# Altium integrated library All_Library1.IntLib: 123 symbols (part 2 of 2)
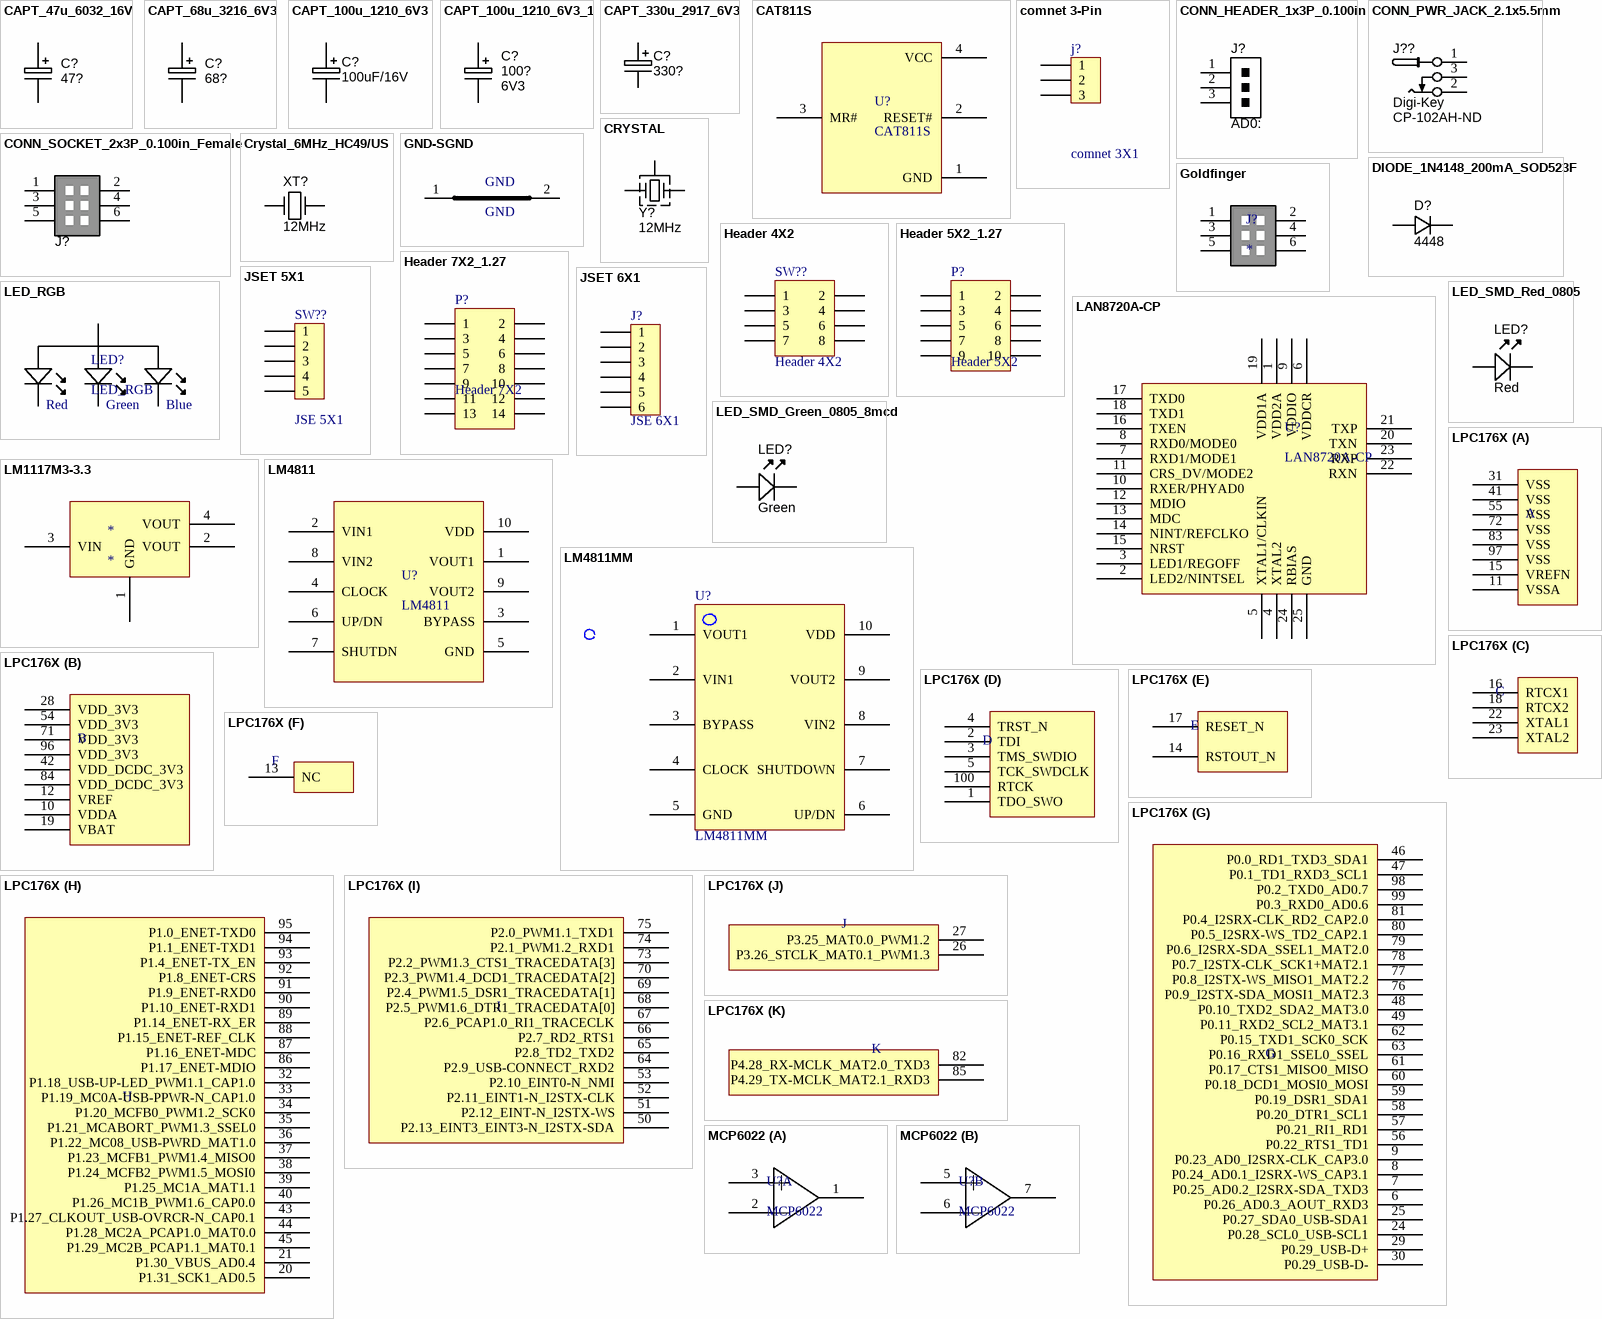
[diagram p4: symbols CAPT_47u_6032_16V to MCP6022]

## Crystal_6MHz_HC49/US
designator XT?, comment 12MHz
Resonator Ceramic 6.00 MHz 30ppm; Manufacturer 1: CTS-Frequency Controls; Manufacturer Part Number 1: ATS060BSM-1; Frequency: 6MHz; Frequency Stability: ?0ppm; Load Capacitance: 18pF; Operating Mode: Fundamental; Parameter Name: 0.169" (4.30mm); Package / Case: HC49/US-SM; Ratings: 6.00 MHz; Supplier 1: Digi-Key; Supplier Part Number 1: CTX882CT-ND; Type: MHz Crystal; Frequency Tolerance: ?0ppm; Operating Temperature: -20蚓 ~ 70蚓; Mounting Type: Surface Mount; Size / Dimension: 0.437" L x 0.190" W (11.10mm x 4.83mm); ComponentLink1URL: http://www.ctscorp.com/components/Datasheets/008-0309-0.pdf; ComponentLink1Description: http://www.ctscorp.com/components/Datasheets/008-0309-0.pdf
footprint CRYSTAL_HC49-US-SM (SMD Crystal HC49/US-SM package)
pins: 1 IN, 2 OUT

## DIODE_1N4148_200mA_SOD523F
designator D?, comment 4448
Diode SMD small signal 0.2A SOD-523F; Ratings: Vr=75V; Vf=1V@10mA; Io=200mA; Material: Si; Package / Case: SC-79, SOD-523F; Supplier 1: Digi-Key; Supplier Part Number 1: 1N4148WTCT-ND; Value: 4448
footprint SOD523F (SOD-523F; 2 Leads; Body 1.3 x 0.9 mm, (LxW))
pins: A, K

## GND-SGND
designator GND, comment GND
footprint GND-SGND
pins: 1 GND, 2

## Goldfinger
designator J?
footprint Goldfinger
pins: 1, 2, 3, 4, 5, 6

## Header 4X2
designator SW??
Header, 4-Pin, Dual row; LatestRevisionDate: 17-Jul-2002; LatestRevisionNote: Re-released for DXP Platform.; Publisher: Altium Limited
footprint HDR2X4 (Connector; Header; 4x2 Position)
pins: 1, 2, 3, 4, 5, 6, 7, 8

## Header 5X2_1.27
designator P?, comment Header 5X2
Header, 5-Pin, Dual row; LatestRevisionDate: 17-Jul-2002; LatestRevisionNote: Re-released for DXP Platform.; Publisher: Altium Limited
footprint Header 5*2 (Connector; Header; 5x2 ,1.27mm)
pins: 1, 2, 3, 4, 5, 6, 7, 8, 9, 10

## Header 7X2_1.27
designator P?, comment Header 7X2
Header, 7-Pin, Dual row; LatestRevisionDate: 17-Jul-2002; LatestRevisionNote: Re-released for DXP Platform.; Publisher: Altium Limited
footprint Header 7X2-1.27 (Connector; Header; 7x2 ,1.27mm)
pins: 1, 2, 3, 4, 5, 6, 7, 8, 9, 10, 11, 12, 13, 14

## JSET 5X1
designator SW??, comment JSE 5X1
JSET, 5-Pin, 2mm Dual row; LatestRevisionDate: 17-Jul-2002; LatestRevisionNote: Re-released for DXP Platform.; Publisher: Altium Limited
footprint JST1X5 (Connector; JST ; 5X1 Position)
pins: 1, 2, 3, 4, 5

## JSET 6X1
designator J?, comment JSE 6X1
JSET, 6-Pin, 2mm Dual row; LatestRevisionDate: 17-Jul-2002; LatestRevisionNote: Re-released for DXP Platform.; Publisher: Altium Limited
footprint JST1X6 (Connector; JST ; 6X1 Position)
pins: 1, 2, 3, 4, 5, 6

## LAN8720A-CP
designator U?
footprint QFN-MJ24 (QFN, 24-Leads, Body 4x4mm, Pitch 0.5mm, Thermal Pad 2.6x2.6mm, Microchip Recommended)
pins: 1 VDD2A, 2 LED2/NINTSEL, 3 LED1/REGOFF, 4 XTAL2, 5 XTAL1/CLKIN, 6 VDDCR, 7 RXD1/MODE1, 8 RXD0/MODE0, 9 VDDIO, 10 RXER/PHYAD0, 11 CRS_DV/MODE2, 12 MDIO, 13 MDC, 14 NINT/REFCLKO, 15 NRST, 16 TXEN, 17 TXD0, 18 TXD1, 19 VDD1A, 20 TXN, 21 TXP, 22 RXN, 23 RXP, 24 RBIAS, 25 GND

## LED_RGB
designator LED?
footprint 4-PLCC (LED_RGB)
pins: B, G, R, VCC
text: Red; Green; Blue

## LED_SMD_Green_0805_8mcd
designator LED?, comment Green
LED, 0805 SMD, Green; Manufacturer 1: Ligitek; Manufacturer Part Number 1: LG-170PG-CT; Material: GaP; Ratings: 8 mcd; 558 nm; Package / Case: 0805
footprint LED-0805-K
pins: A, K

## LED_SMD_Red_0805
designator LED?, comment Red
LED, 0805 SMD, Red; Manufacturer 1: Ligitek; Manufacturer Part Number 1: LG170SR-CT; Material: GaAIAs; Ratings: 20 mcd; 643 nm; Package / Case: 0805
footprint LED-0805-A
pins: A, K

## LM1117M3-3.3
designator *
footprint SOT-223 (SOT-223/SC-73; 4 Leads; Body 6.7 x 7.3 mm, inc. leads (LxW max))
pins: 1 GND, 2 VOUT, 3 VIN, 4 VOUT

## LM4811
designator U?
footprint MSOP-UN10_M (TSSOP, 10-Leads, Body 3x3mm, Pitch 0.5mm, IPC Low Density)
pins: 1 VOUT1, 2 VIN1, 3 BYPASS, 4 CLOCK, 5 GND, 6 UP/DN, 7 SHUTDN, 8 VIN2, 9 VOUT2, 10 VDD

## LM4811MM
designator U?
footprint MSOP-UN10_N (TSSOP, 10-Leads, Body 3x3mm, Pitch 0.5mm, IPC Medium Density)
pins: 1 VOUT1, 2 VIN1, 3 BYPASS, 4 CLOCK, 5 GND, 6 UP/DN, 7 SHUTDOWN, 8 VIN2, 9 VOUT2, 10 VDD

## LPC176X
designator ?
footprint SOT407-1_N (Thin QFP, 100-Leads, Body 14x14mm, Pitch 0.5mm, IPC Medium Density)
part A pins: 11 VSSA, 15 VREFN, 31 VSS, 41 VSS, 55 VSS, 72 VSS, 83 VSS, 97 VSS
part B pins: 10 VDDA, 12 VREF, 19 VBAT, 28 VDD_3V3, 42 VDD_DCDC_3V3, 54 VDD_3V3, 71 VDD_3V3, 84 VDD_DCDC_3V3, 96 VDD_3V3
part C pins: 16 RTCX1, 18 RTCX2, 22 XTAL1, 23 XTAL2
part D pins: 1 TDO_SWO, 2 TDI, 3 TMS_SWDIO, 4 TRST_N, 5 TCK_SWDCLK, 100 RTCK
part E pins: 14 RSTOUT_N, 17 RESET_N
part F pins: 13 NC
part G pins: 6 P0.26_AD0.3_AOUT_RXD3, 7 P0.25_AD0.2_I2SRX-SDA_TXD3, 8 P0.24_AD0.1_I2SRX-WS_CAP3.1, 9 P0.23_AD0_I2SRX-CLK_CAP3.0, 24 P0.28_SCL0_USB-SCL1, 25 P0.27_SDA0_USB-SDA1, 29 P0.29_USB-D+, 30 P0.29_USB-D-, 46 P0.0_RD1_TXD3_SDA1, 47 P0.1_TD1_RXD3_SCL1, 48 P0.10_TXD2_SDA2_MAT3.0, 49 P0.11_RXD2_SCL2_MAT3.1, 56 P0.22_RTS1_TD1, 57 P0.21_RI1_RD1, 58 P0.20_DTR1_SCL1, 59 P0.19_DSR1_SDA1, 60 P0.18_DCD1_MOSI0_MOSI, 61 P0.17_CTS1_MISO0_MISO, 62 P0.15_TXD1_SCK0_SCK, 63 P0.16_RXD1_SSEL0_SSEL, 76 P0.9_I2STX-SDA_MOSI1_MAT2.3, 77 P0.8_I2STX-WS_MISO1_MAT2.2, 78 P0.7_I2STX-CLK_SCK1+MAT2.1, 79 P0.6_I2SRX-SDA_SSEL1_MAT2.0, 80 P0.5_I2SRX-WS_TD2_CAP2.1, 81 P0.4_I2SRX-CLK_RD2_CAP2.0, 98 P0.2_TXD0_AD0.7, 99 P0.3_RXD0_AD0.6
part H pins: 20 P1.31_SCK1_AD0.5, 21 P1.30_VBUS_AD0.4, 32 P1.18_USB-UP-LED_PWM1.1_CAP1.0, 33 P1.19_MC0A-USB-PPWR-N_CAP1.0, 34 P1.20_MCFB0_PWM1.2_SCK0, 35 P1.21_MCABORT_PWM1.3_SSEL0, 36 P1.22_MC08_USB-PWRD_MAT1.0, 37 P1.23_MCFB1_PWM1.4_MISO0, 38 P1.24_MCFB2_PWM1.5_MOSI0, 39 P1.25_MC1A_MAT1.1, 40 P1.26_MC1B_PWM1.6_CAP0.0, 43 P1.27_CLKOUT_USB-OVRCR-N_CAP0.1, 44 P1.28_MC2A_PCAP1.0_MAT0.0, 45 P1.29_MC2B_PCAP1.1_MAT0.1, 86 P1.17_ENET-MDIO, 87 P1.16_ENET-MDC, 88 P1.15_ENET-REF_CLK, 89 P1.14_ENET-RX_ER, 90 P1.10_ENET-RXD1, 91 P1.9_ENET-RXD0, 92 P1.8_ENET-CRS, 93 P1.4_ENET-TX_EN, 94 P1.1_ENET-TXD1, 95 P1.0_ENET-TXD0
part I pins: 50 P2.13_EINT3_EINT3-N_I2STX-SDA, 51 P2.12_EINT-N_I2STX-WS, 52 P2.11_EINT1-N_I2STX-CLK, 53 P2.10_EINT0-N_NMI, 64 P2.9_USB-CONNECT_RXD2, 65 P2.8_TD2_TXD2, 66 P2.7_RD2_RTS1, 67 P2.6_PCAP1.0_RI1_TRACECLK, 68 P2.5_PWM1.6_DTR1_TRACEDATA[0], 69 P2.4_PWM1.5_DSR1_TRACEDATA[1], 70 P2.3_PWM1.4_DCD1_TRACEDATA[2], 73 P2.2_PWM1.3_CTS1_TRACEDATA[3], 74 P2.1_PWM1.2_RXD1, 75 P2.0_PWM1.1_TXD1
part J pins: 26 P3.26_STCLK_MAT0.1_PWM1.3, 27 P3.25_MAT0.0_PWM1.2
part K pins: 82 P4.28_RX-MCLK_MAT2.0_TXD3, 85 P4.29_TX-MCLK_MAT2.1_RXD3

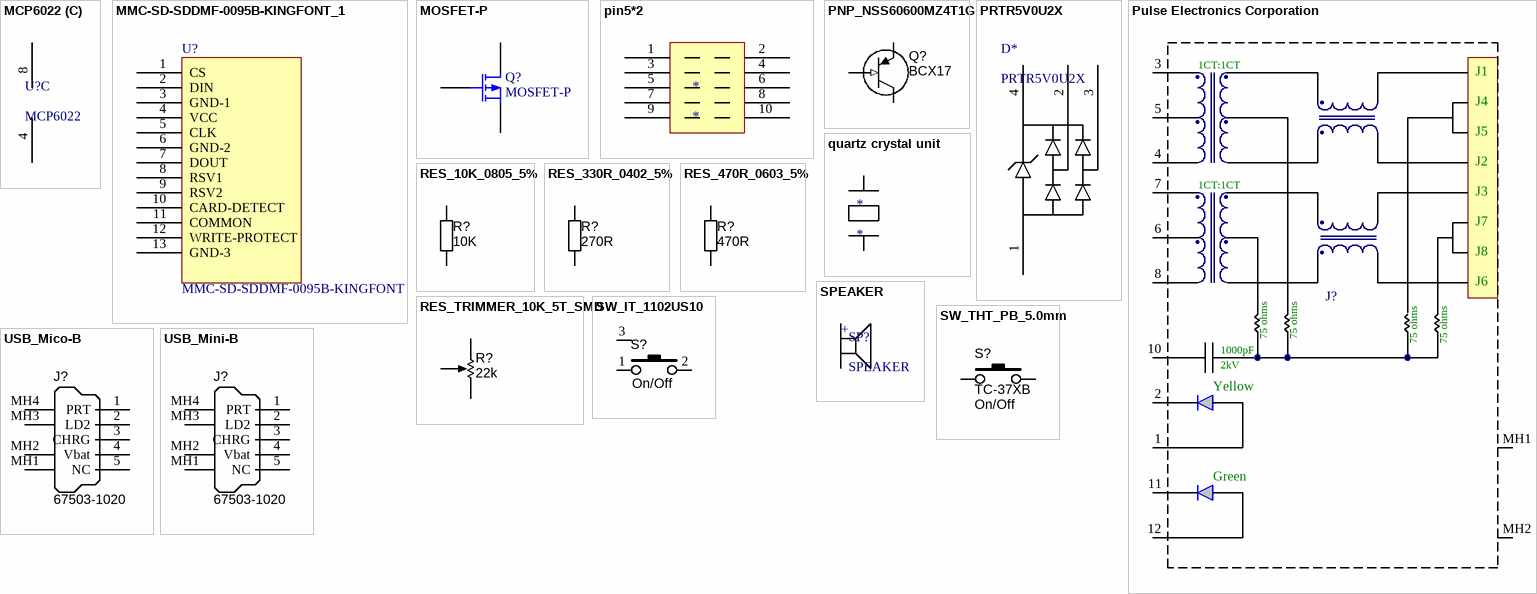
[diagram p3: symbols MCP6022 to USB_Mini-B]

## MCP6022
designator U?
footprint TSSOP-ST8_N (TSOP, 8-Leads, Body 3x4.4mm, Pitch 0.65mm, IPC Medium Density)
part A pins: 1 VOUTA, 2 VINA-, 3 VINA+
part B pins: 5 VINB+, 6 VINB-, 7 VOUTB
part C pins: 4 GND, 8 VDD

## MMC-SD-SDDMF-0095B-KINGFONT_1
designator U?, comment MMC-SD-SDDMF-0095B-KINGFONT
footprint TF-CARD
pins: 1 CS, 2 DIN, 3 GND-1, 4 VCC, 5 CLK, 6 GND-2, 7 DOUT, 8 RSV1, 9 RSV2, 10 CARD-DETECT, 11 COMMON, 12 WRITE-PROTECT, 13 GND-3

## MOSFET-P
designator Q?
P-Channel MOSFET; Published: 8-Jun-2000; LatestRevisionDate: 17-Jul-2002; LatestRevisionNote: Re-released for DXP Platform.; PackageVersion: 1995/1996; PackageReference: E3; Publisher: Altium Limited; PackageDescription: TO, Flat Index; 3 In-Line, Axial Leads; Body Dia. 4.6mm; Lead Dia. 0.5 mm (max)
footprint SOT23-3N (SOT23, 3-Leads, Body 2.9x1.3mm, Pitch 0.95mm, Lead Span 2.5mm, IPC Medium Density)
pins: 1 G, 2 S, 3 D

## pin5*2
designator *
pins: 1, 2, 3, 4, 5, 6, 7, 8, 9, 10

## PNP_NSS60600MZ4T1G
designator Q?, comment Manufacturer Part Number 1: BCX17  (hidden comment: PNP)
Transistor SMD PNP 60V 6A 800mW SOT-223; Manufacturer 1: ON Semiconductor; Ratings: 60V; 6A; 800mW; Material: Si; Package / Case: SOT-223; Transistor Type: PNP; Mounting Type: Surface Mount; Supplier 1: Digi-Key; Supplier Part Number 1: NSS60600MZ4T1GOSCT-ND
footprint SOT-223 (SOT-223/SC-73; 4 Leads; Body 6.7 x 7.3 mm, inc. leads (LxW max))
pins: 1 B (in), 2 C, 3 E, 4 C

## PRTR5V0U2X
designator D*
footprint SOT190P230X120-4N (SOT143, 4-Leads, Body 2.9x1.3mm, Pitch 1.9mm, Lead Span 2.3mm, IPC Medium Density)
pins: 1 GND, 2 I/O 1, 3 I/O 2, 4 VCC

## Pulse Electronics Corporation
designator J?, comment J3011G21DNL  (value not drawn)
10/100 Base-Tx Tap Up RJ45 with LED
footprint J3011G21DNL
pins: 1 10, 2 9, 3 TD+, 4 TD-, 5 CTD, 6 CRD, 7 RD+, 8 RD-, 10 Shield, 11, 12, MH1 GND, MH2 GND
text: 1CT:1CT; J1; J4; J5; J2; J3; J7; J8; J6; 75 ohms; 1000pF; 2kV; Yellow; Green

## quartz crystal unit
designator *

## RES_10K_0805_5%
designator R?, comment value 10K  (hidden comment: Thick Film)
Resistor SMD chip 10k Ohm 0.125W 5% 0805; Manufacturer 1: Yageo; Manufacturer Part Number 1: RC0805JR-0710KL; Ratings: 1/8 W; Tolerance: ?%; Package / Case: 0805 (2012 metric); Material: Thick Film; Supplier 1: Digi-Key; Supplier Part Number 1: 311-10KARCT-ND
footprint RESC2012N (Chip Resistor, Body 2.0x1.2mm, IPC Medium Density)
pins: 1, 2

## RES_330R_0402_5%
designator R?, comment value 270R  (hidden comment: Thick Film)
Resistor SMD chip 330 Ohm 0.063W 5% 0402; Manufacturer 1: Yageo; Manufacturer Part Number 1: RC0402JR-07330RL; Ratings: 1/16 W; Tolerance: ?%; Package / Case: 0402 (1005 Metric); Supplier 1: Digi-Key; Supplier Part Number 1: 311-330JRCT-ND; ComponentLink1URL: http://www.yageo.com/documents/recent/PYu-RC0402_51_RoHS_L_6.pdf; ComponentLink1Description: http://www.yageo.com/documents/recent/PYu-RC0402_51_RoHS_L_6.pdf
footprint RESC1005N (Chip Resistor, Body 1.0x0.5mm, EIA 0402, IPC Medium Density)
footprint RESC1005L (Chip Resistor, Body 1.1x0.5mm, IPC High Density)
pins: 1, 2

## RES_470R_0603_5%
designator R?, comment value 470R  (hidden comment: Thick Film)
Resistor SMD chip 470 Ohm 0.1W 5% 0603; Manufacturer 1: Vishay/Dale; Manufacturer Part Number 1: CRCW0603470RJNEA; Ratings: 1/10 W; Tolerance: ?%; Package / Case: 0603 (1608 metric); Material: Thick Film; Supplier 1: Digi-Key; Supplier Part Number 1: 541-470GCT-ND
footprint RESC1608N (Chip Resistor, Body 1.6x0.8mm, IPC Medium Density)
pins: 1, 2

## RES_TRIMMER_10K_5T_SMD
designator R?  value 22k
Trimmer SMD 10K 250mW 5-turn Side-adjust; Manufacturer 1: Bourns Inc.; Manufacturer Part Number 1: 3214G-1-103E; Tolerance: 10%; Ratings: 5 turn variable cermet; Number of Turns: 5; Supplier 1: Digi-Key; Supplier Part Number 1: 3214G-1-103ECT-ND
footprint TrimPot_SMD_Bourns_3214G (Bourns- 3214G - TRIMMER)
footprint RES_TRIMMER_SMD_TC33X1
pins: 1 CCW, 2 WIPER, 3 CW

## SPEAKER
designator SP?
text: +

## SW_IT_1102US10
designator S?  Function: On/Off  (hidden comment: SW_IT_1102US10)
Manufacturer 1: Wealth Metal; Package / Case: 6.5x6.5mm; 5.0mm stem; Material: Brass/Nylon/Ag plating
footprint IT-1102US10
footprint IT-1102US10 -1.5mm
pins: 1, 2, 3

## SW_THT_PB_5.0mm
designator S?  Manufacturer Part Number 1: TC-37XB  Function: On/Off  (hidden comment: SW_THT_PB_5.0mm)
Switch, tact, 5.0mm stem; Manufacturer 1: Wealth Metal; Package / Case: 6.5x6.5mm; 5.0mm stem; Material: Brass/Nylon/Ag plating
footprint TACT-SWITCH-TC-37XB (Wealth Metal sealed TH tact switch)
pins: 1, 2

## USB_Mico-B
designator J?, comment Manufacturer Part Number 1: 67503-1020  (hidden comment: USB_mico-B)
Connector SMD USB Type Mico-B; Manufacturer 1: Molex Connector Corporation; Package / Case: SMD; Supplier 1: Digi-Key; Supplier Part Number 1: WM5461CT-ND
footprint USB_micoi-B_Molex_SMT
pins: 1 PRT, 2 LD2, 3 CHRG, 4 Vbat, 5 NC, MH1 Shell, MH2 Shell, MH3 Shell, MH4 Shell

## USB_Mini-B
designator J?  Manufacturer Part Number 1: 67503-1020  (hidden comment: USB_Mini-B)
Connector SMD USB Type Mini-B; Manufacturer 1: Molex Connector Corporation; Package / Case: SMD; Supplier 1: Digi-Key; Supplier Part Number 1: WM5461CT-ND
footprint USB_Mini-B_Molex_SMT
pins: 1 PRT, 2 LD2, 3 CHRG, 4 Vbat, 5 NC, MH1 Shell, MH2 Shell, MH3 Shell, MH4 Shell